# EAGLE library part ADAFRUIT_MAX31865_8-PIN_FEMALE_HEADER (library myLib-01-Headers)
Eight pin female header for the Adafruit PT100 RTD Temperature Sensor Amplifier - MAX31865 https://www.adafruit.com/product/3328 https://learn.adafruit.com/adafruit-max31865-rtd-pt100-amplifier
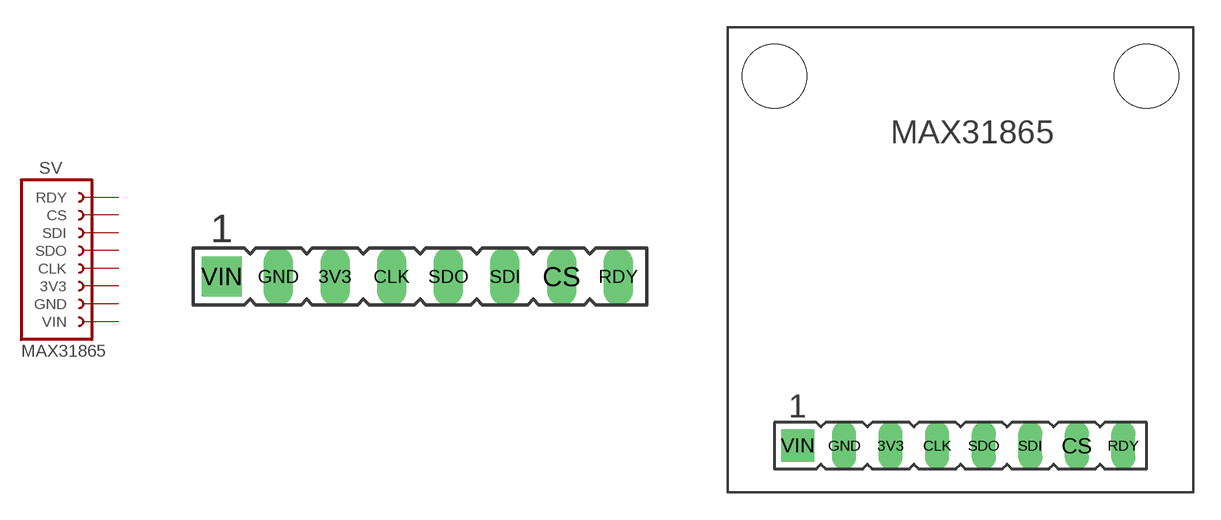
[diagram p3: symbol with the pads of ADAFRUIT_MAX31865_8-PIN_FEMALE_HEADER; footprints ADAFRUIT_MAX31865_8-PIN_FEMALE_HEADER, ADAFRUIT_MAX31865_8-PIN_FEMALE_HEADER_W_MOUNT_HOLES]

Designator prefix SV

## ADAFRUIT_MAX31865_8-PIN_FEMALE_HEADER (OC_FARNELL: unknown; OC_NEWARK: unknown)  [ADAFRUIT_MAX31865_8-PIN_FEMALE_HEADER]
3V3  3V3  pas
CLK  CLK  pas
CS  CS  pas
GND  GND  pas
RDY  RDY  pas
SDI  SDI  pas
SDO  SDO  pas
VIN  VIN  pas

## ADAFRUIT_MAX31865_8-PIN_FEMALE_HEADERW_MOUNT_HOLES  [ADAFRUIT_MAX31865_8-PIN_FEMALE_HEADER_W_MOUNT_HOLES]
Pads as for ADAFRUIT_MAX31865_8-PIN_FEMALE_HEADER

## Footprint ADAFRUIT_MAX31865_8-PIN_FEMALE_HEADER (pad centres in mm)
FEMALE HEADER
drill 0.813 long: 3V3 5.08,0; CLK 7.62,0; CS 15.24,0; GND 2.54,0; RDY 17.78,0; SDI 12.7,0; SDO 10.16,0
drill 0.813 pad 1.778 square: VIN 0,0

## Footprint ADAFRUIT_MAX31865_8-PIN_FEMALE_HEADER_W_MOUNT_HOLES (pad centres in mm)
FEMALE HEADER With mount holes
drill 0.813 long: 3V3 5.08,0; CLK 7.62,0; CS 15.24,0; GND 2.54,0; RDY 17.78,0; SDI 12.7,0; SDO 10.16,0
drill 0.813 pad 1.778 square: VIN 0,0
hole 3.5 at -1.27,20.193
hole 3.5 at 19.05,20.193